# EAGLE library part 750342585 (library WE-OLTI)
WE-OLTI Offline Flyback Transformers Characteristics Nominal input voltage: 85–265 VAC (120–375 VDC) Small size Low leakage inductance Multiple-output options Operating temperature: −40 °C to +125 °C Isolation Voltage: 2 kVAC to 5 kVAC Options for fixed frequency or quasi-resonant mode operation Most products meet reinforced insulation Applications Industrial controls USB chargers Utility metering devices Process controls Factory automation Security systems Garage door opener auxiliary supplies Home appliances Especially designed for several ICs from Texas Instruments <https://www.we-online.com/components/media/o814034v209%20UtOLTI%20Group%20CGI.jpg> Details see: www.we-online.com/en/components/products/WE-OLTI <www.we-online.com/catalog/WE-OLTI/?utm_source=eagle_model&utm_medium=description_link&utm_campaign=eisos_eagle> Created by Ella Wu 2025-02-06 2025 (C) Wurth Elektronik
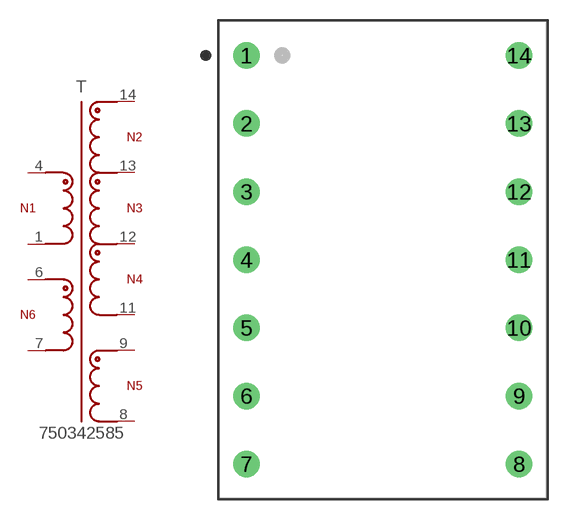
[diagram p7: symbol with the pads of WE-OLTI_ETD29_L35.56W24.38H44.2; footprint WE-OLTI_ETD29_L35.56W24.38H44.2]

Designator prefix T

## 750342585 (DATASHEET-URL: https://www.we-online.com/redexpert/spec/750342585?ae; FSWITCH: 68kHz; HEIGHT: 44.2mm; IOUT1: 2000mA; IOUT2: 140mA; IOUT3: 140mA; ISAT: 0.0062A; L: 2500uH; LENGTH: 35.56mm; MOUNT: THT; N: 35.5:1:2:2:0.75:2; PART-NUMBER: 750342585; SIZE: ETD29; VALUE: 2500uH; VAUX: 16V; VIN: 400 - 690 V (AC); VOUT1: 24V; VOUT2: 16V; VOUT3: 16V; VT: 3800V(AC); WIDTH: 24.38mm)  [WE-OLTI_ETD29_L35.56W24.38H44.2]
1  1  pas
4  4  pas
6  6  pas
7  7  pas
8  8  pas
9  9  pas
11  11  pas
12  12  pas
13  13  pas
14  14  pas

## Footprint WE-OLTI_ETD29_L35.56W24.38H44.2 (pad centres in mm)
WE-OLTI Offline Flyback Transformers Size: ETD29,THT,14pins LXWXH=35.56X24.38X44.2mm Bobbin: 070-4772
drill 1.32: 1 -10.16,15.24; 2 -10.16,10.16; 3 -10.16,5.08; 4 -10.16,0; 5 -10.16,-5.08; 6 -10.16,-10.16; 7 -10.16,-15.24; 8 10.16,-15.24; 9 10.16,-10.16; 10 10.16,-5.08; 11 10.16,0; 12 10.16,5.08; 13 10.16,10.16; 14 10.16,15.24